# EAGLE library part 208658-1001 (library molex-hdmi-receptacle-208658-1001)
HDMI, Displayport & DVI Connectors 0.5mm HDMI Recep RA 19CKT Source: Datasheet <https://componentsearchengine.com/Datasheets/2/208658-1001.pdf>
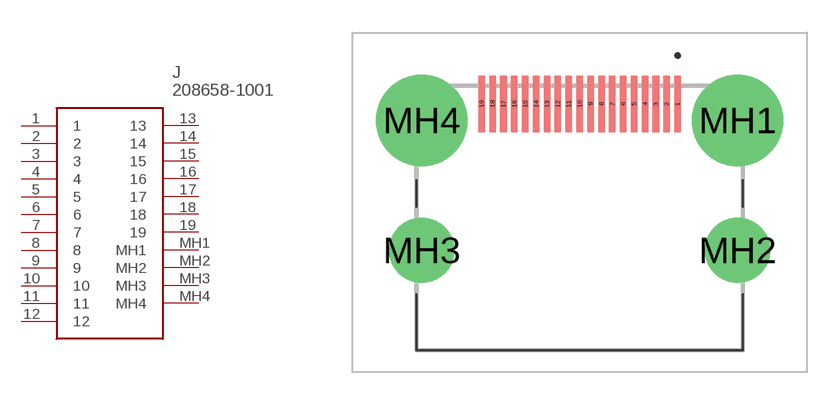
[diagram p0: symbol with the pads of 2086581001; footprint 2086581001]

Designator prefix J

## 208658-1001 (Description: HDMI, Displayport & DVI Connectors 0.5mm HDMI Recep RA 19CKT; Height: 6.19mm; Manufacturer_Name: Molex; Manufacturer_Part_Number: 208658-1001; Mouser_Part_Number: 538-208658-1001; Mouser_Price-Stock: https://www.mouser.co.uk/ProductDetail/Molex/208658-1001?qs=B6kkDfuK7%2FCPiHHdkGL5VQ%3D%3D)  [2086581001]
1  1
2  2
3  3
4  4
5  5
6  6
7  7
8  8
9  9
10  10
11  11
12  12
13  13
14  14
15  15
16  16
17  17
18  18
19  19
MH1  MH1
MH2  MH2
MH3  MH3
MH4  MH4

## Footprint 2086581001 (pad centres in mm)
208658-1001-1
smd 0.3 x 2.6: 1 4.5,0.76; 2 4,0.76; 3 3.5,0.76; 4 3,0.76; 5 2.5,0.76; 6 2,0.76; 7 1.5,0.76; 8 1,0.76; 9 0.5,0.76; 10 0,0.76; 11 -0.5,0.76; 12 -1,0.76; 13 -1.5,0.76; 14 -2,0.76; 15 -2.5,0.76; 16 -3,0.76; 17 -3.5,0.76; 18 -4,0.76; 19 -4.5,0.76
drill 2.909 pad 4.2: MH1 7.25,0; MH4 -7.25,0
drill 1.991 pad 2.8: MH2 7.25,-5.96; MH3 -7.25,-5.96